# Altium footprint library Revolve2014_stdlib.PcbLib: 24 footprints (part 2 of 2)
Each footprint in its own frame and in the unit in brackets; x right, y up, seen from the top. Pads: shape width x height; smd on the part's side, far side on the other; paste and mask are expansions set on the pad; w line width, h text height; cw(c..) or ccw(c..) is an arc to the next point about the centre after c.
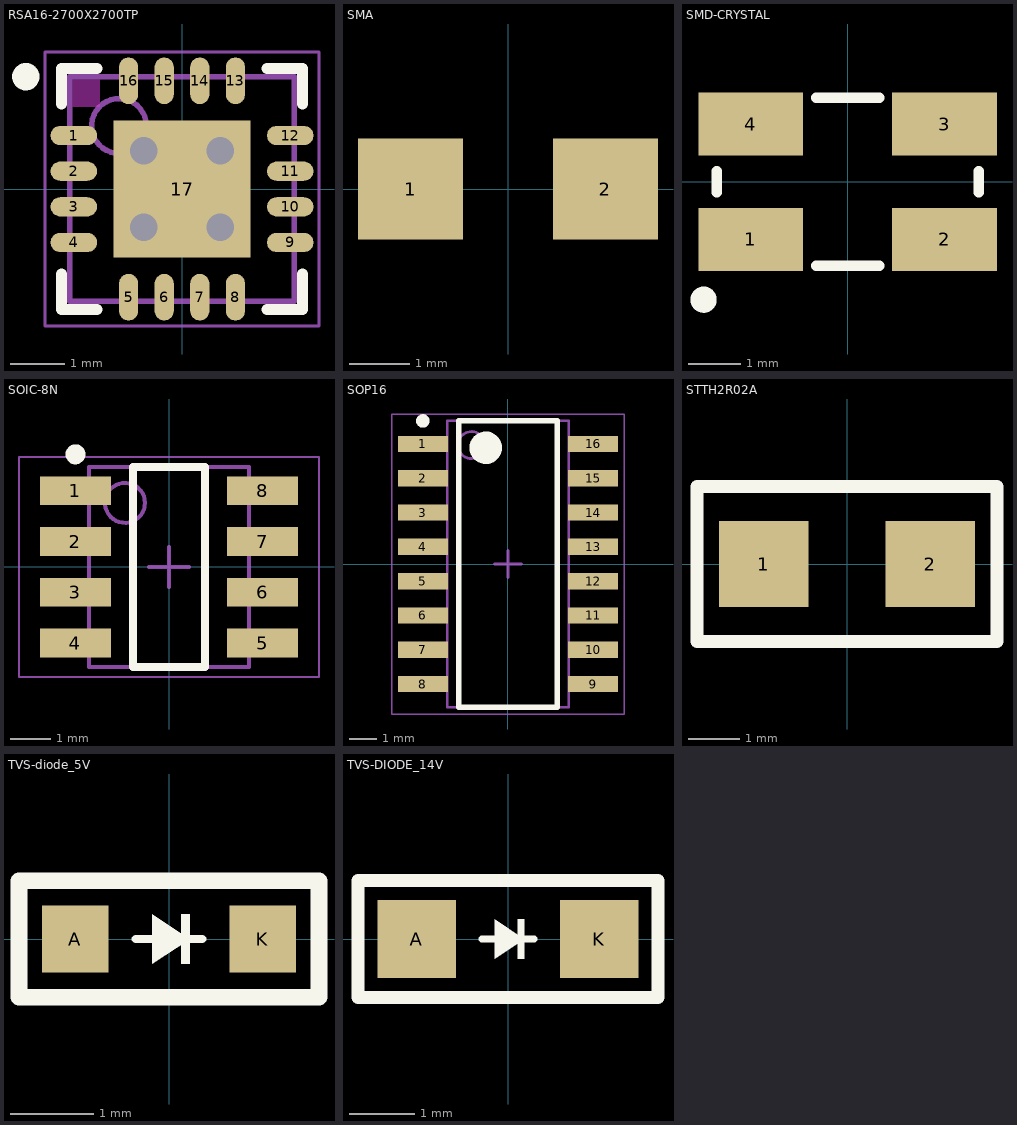
[diagram p1: the footprints below, top view; thin cyan lines are the x and y axes]

## RSA16-2700X2700TP [mm] "QFN, 16-Leads, Body 4x4mm, Pitch 0.65mm, Thermal Pad 2.7x2.7mm, TI Recommended"
height 1
pads (17):
  oval 0.85x0.35 smd paste-0.025 mask+0.07: 1(-1.975,0.975) 2(-1.975,0.325) 3(-1.975,-0.325) 4(-1.975,-0.975) 9(1.975,-0.975) 10(1.975,-0.325) 11(1.975,0.325) 12(1.975,0.975)
  oval 0.35x0.85 smd paste-0.025 mask+0.07: 5(-0.975,-1.975) 6(-0.325,-1.975) 7(0.325,-1.975) 8(0.975,-1.975) 13(0.975,1.975) 14(0.325,1.975) 15(-0.325,1.975) 16(-0.975,1.975)
  rect 2.5x2.5 smd paste-1.35 mask+0.07: 17(0,0)
via 0.7,0.7 diameter 1 hole 0.5
via -0.7,-0.7 diameter 1 hole 0.5
via -0.7,0.7 diameter 1 hole 0.5
via 0.7,-0.7 diameter 1 hole 0.5
Top Layer keep-out:
  rectangle: -2,1.5 -1.5,2
Top Overlay:
  circle w0.25: c-2.85,2.05 r0.125
  lines w0.2: -2.2,-1.55 -2.2,-2.2 -1.55,-2.2 ; -2.2,1.55 -2.2,2.2 -1.55,2.2 ; 1.55,-2.2 2.2,-2.2 2.2,-1.55 ; 1.55,2.2 2.2,2.2 2.2,1.55
Top Paste:
  rectangle: 0.15,0.15 1.25,1.25
  region: -0.15,0.15 -0.15,1.25 -1.25,1.25 -1.25,0.15
  region: -0.15,-0.15 -1.25,-0.15 -1.25,-1.25 -0.15,-1.25
  region: 0.15,-0.15 0.15,-1.25 1.25,-1.25 1.25,-0.15
Mechanical 13:
  circle w0.1: c-1.15,1.15 r0.5
  lines w0.1: -2.05,-2.05 2.05,-2.05 2.05,2.05 -2.05,2.05 -2.05,-2.05
Mechanical 15:
  lines w0.05: -2.5,-2.5 2.5,-2.5 2.5,2.5 -2.5,2.5 -2.5,-2.5
  lines w0.1: -0.5,0 0.5,0 ; 0,-0.5 0,0.5
3D body: height 1, standoff 0, extent -2.05,-2.05 2.05,2.05

## SMA [mm]
pads (2):
  rect 1.73x1.67 smd: 1(-1.605,0) 2(1.605,0)
3D body: height 2, standoff 0, extent -2.427,-1.627 2.427,1.627

## SMD-CRYSTAL [mm] "Quartz Crystal, SM; Body 5.0x 3.2 mm (LxW)"
height 1
pads (4):
  rect 2x1.2 smd: 1(-1.85,-1.1) 2(1.85,-1.1) 3(1.85,1.1) 4(-1.85,1.1)
Top Overlay:
  circle w0.25: c-2.75,-2.25 r0.125
  lines w0.2: -2.5,-0.2 -2.5,0.2 ; -0.6,-1.6 0.6,-1.6 ; -0.6,1.6 0.6,1.6 ; 2.5,-0.2 2.5,0.2
3D body: height 1, standoff 0, extent -2.6,-1.7 2.6,1.7

## SOIC-8N [mm] "SOIC, 8-Leads, Body 4,90x3,90mm, Pitch 1,27mm, IPC Medium Density"
height 1.75
pads (8):
  rect 1.78x0.72 smd: 1(-2.34,1.905) 2(-2.34,0.635) 3(-2.34,-0.635) 4(-2.34,-1.905) 5(2.34,-1.905) 6(2.34,-0.635) 7(2.34,0.635) 8(2.34,1.905)
Top Overlay:
  circle w0.25: c-2.34,2.815 r0.125
  lines w0.2: -0.9,-2.5 0.9,-2.5 0.9,2.5 -0.9,2.5 -0.9,-2.5
Mechanical 13:
  circle w0.1: c-1.1,1.6 r0.5
  lines w0.1: -2,-2.5 2,-2.5 2,2.5 -2,2.5 -2,-2.5
Mechanical 15:
  lines w0.05: -3.75,-2.75 3.75,-2.75 3.75,2.75 -3.75,2.75 -3.75,-2.75
  lines w0.1: -0.5,0 0.5,0 ; 0,-0.5 0,0.5
3D body: height 1.75, standoff 0.1, extent -2,-2.5 2,2.5

## SOP16 [mm] "SOP16 CEL-package (used for 4channel optocoupler)"
height 2.1
pads (16):
  rect 1.85x0.6 smd: 1(-3.15,4.445) 2(-3.15,3.175) 3(-3.15,1.905) 4(-3.15,0.635) 5(-3.15,-0.635) 6(-3.15,-1.905) 7(-3.15,-3.175) 8(-3.15,-4.445) 9(3.15,-4.445) 10(3.15,-3.175) 11(3.15,-1.905) 12(3.15,-0.635) 13(3.15,0.635) 14(3.15,1.905) 15(3.15,3.175) 16(3.15,4.445)
Top Overlay:
  circle w0.6: c-0.825,4.3 r0.3
  circle w0.25: c-3.15,5.295 r0.125
  lines w0.2: -1.825,-5.3 1.825,-5.3 1.825,5.3 -1.825,5.3 -1.825,-5.3
Mechanical 13:
  circle w0.1: c-1.35,4.4 r0.5
  lines w0.1: -2.25,-5.3 2.25,-5.3 2.25,5.3 -2.25,5.3 -2.25,-5.3
Mechanical 15:
  lines w0.05: -4.3,-5.55 4.3,-5.55 4.3,5.55 -4.3,5.55 -4.3,-5.55
  lines w0.1: -0.5,0 0.5,0 ; 0,-0.5 0,0.5
3D body: height 2.1, standoff 0, extent -2.25,-5.3 2.25,5.3

## STTH2R02A [mm]
pads (2):
  rect 1.73x1.67 smd: 1(-1.605,0) 2(1.605,0)
Top Overlay:
  lines w0.254: -2.9,-1.5 2.9,-1.5 2.9,1.5 -2.9,1.5 -2.9,-1.5
3D body: height 2, standoff 0, extent -2.427,-1.627 2.427,1.627

## TVS-diode_5V [mm]
pads (2):
  rect 0.8x0.8 smd: A(-1.125,0) K(1.125,0)
Top Overlay:
  region: -0.2,0.3 -0.2,-0.3 0.25,0
  region: 0.15,0.3 0.15,-0.3 0.25,-0.3 0.25,0.3
  lines w0.1: -0.4,0 0.4,0
  lines w0.2: -1.8,-0.7 1.8,-0.7 1.8,0.7 -1.8,0.7 -1.8,-0.7

## TVS-DIODE_14V [mm]
pads (2):
  rect 1.2x1.2 smd: A(-1.4,0) K(1.4,0)
Top Overlay:
  region: 0.15,0.3 0.15,-0.3 0.25,-0.3 0.25,0.3
  region: -0.2,0.3 -0.2,-0.3 0.25,0
  lines w0.1: -0.4,0 0.4,0
  lines w0.2: -2.3,-0.9 2.3,-0.9 2.3,0.9 -2.3,0.9 -2.3,-0.9